# Altium integrated library Silicon Labs Small Form Factor MCUs.IntLib: 100 symbols (part 3 of 5)
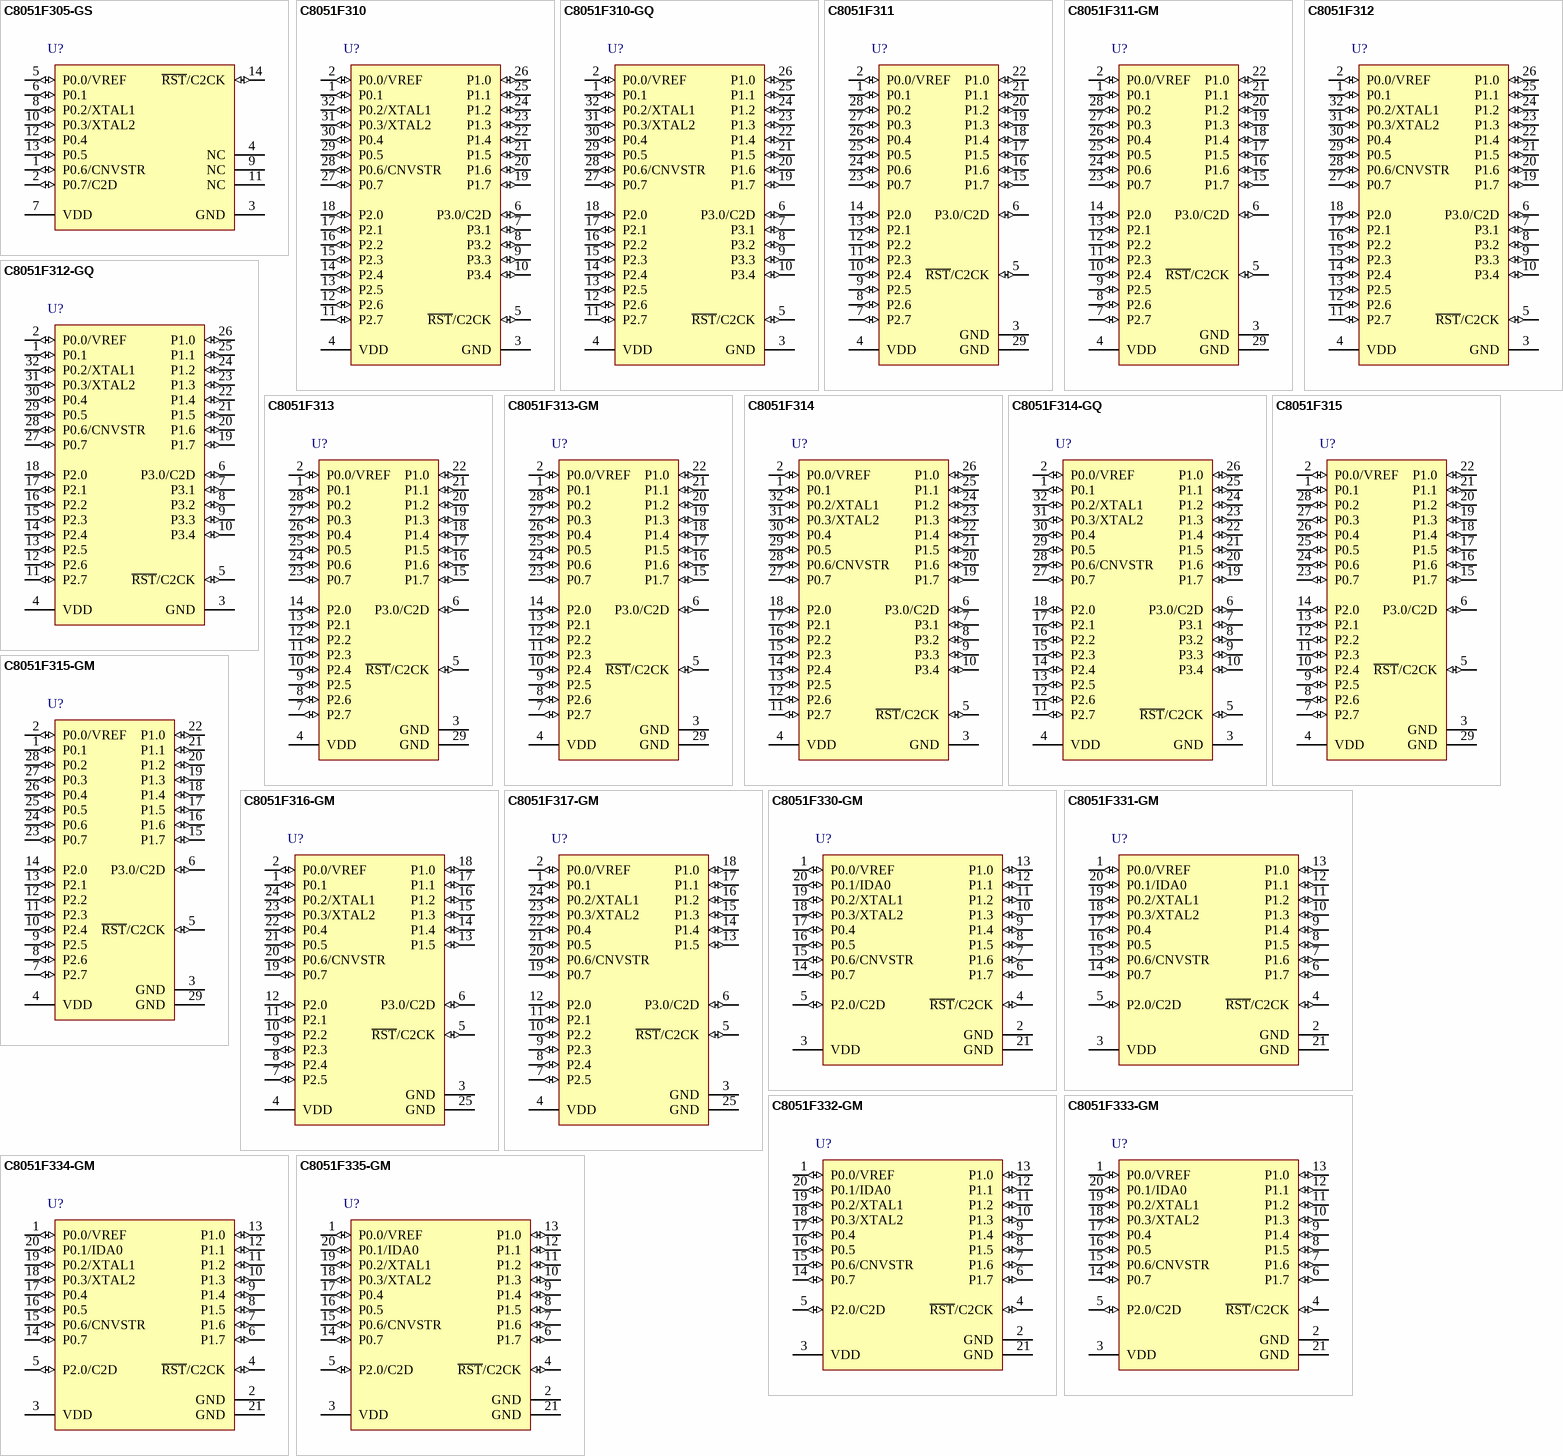
[diagram p6: symbols C8051F305-GS to C8051F335-GM]

## C8051F335-GM
designator U?
Mixed-Signal ISP Flash MCU Family, 25 MHz, 0.75 kB RAM, 2 kB Flash, -40 to 85 degC, 20-pin QFN; Manufacturer: Silicon Labs; PartNumber: C8051F335-GM; AEC-Q100: FALSE; Comparators: 1; Debug Interface: C2; Dig I/O Pins: 17; Flash: 2 kB; Internal Osc. Accuracy: +/-2%; MCU Core: 8051; MHz: 25; PCA Channels: 3; RAM: 0.75 kB; Timers (16-bit): 4; Sub-Family: Small Form Factor MCUs; DatasheetVersion: Rev. 1.7; PackageReference: QFN-20; PackageDescription: 20-Pin Quad-Flat No-Leads Package, Body 4 x 4 mm, Pitch 0.5 mm; Supplier 1: Digi-Key; Supplier Part Number 1: 336-1269-ND; Supplier 2: Farnell; Supplier Part Number 2: 1291519; Supplier 3: Newark; Supplier Part Number 3: 24M1248; Supplier 4: Mouser; Supplier Part Number 4: 634-C8051F335-GM; Temp Sensor: FALSE; Mounting Technology: Surface Mount; Code_JEDEC: MO-220; Code_IPC: J-STD-020; ComponentLink1Description: Manufacturer URL; ComponentLink1URL: http://www.silabs.com/; ComponentLink2Description: Datasheet; ComponentLink2URL: http://www.silabs.com/Support Documents/TechnicalDocs/C8051F33x.pdf; ComponentLink3Description: Package Specification; ComponentLink3URL: http://www.silabs.com/Support%20Documents/TechnicalDocs/C8051F80x-83x.pdf
footprint SLAB-QFN-20-2125x2125TP_N (QFN, 20-Leads, Body 4x4mm, Pitch 0.5mm, Thermal Pad 2.13x2.13mm, IPC Medium Density)
footprint SLAB-QFN-20-2125x2125TP_L (QFN, 20-Leads, Body 4x4mm, Pitch 0.5mm, Thermal Pad 2.13x2.13mm, IPC High Density)
footprint SLAB-QFN-20-2125x2125TP_M (QFN, 20-Leads, Body 4x4mm, Pitch 0.5mm, Thermal Pad 2.13x2.13mm, IPC Low Density)
pins: 1 P0.0/VREF (io), 2 GND (power) "Ground.", 3 VDD (power) "Power Supply Voltage.", 4 ~{RST}/C2CK (io), 5 P2.0/C2D (io), 6 P1.7 (io) "Port 1.7.", 7 P1.6 (io) "Port 1.6.", 8 P1.5 (io) "Port 1.5.", 9 P1.4 (io) "Port 1.4.", 10 P1.3 (io) "Port 1.3.", 11 P1.2 (io) "Port 1.2.", 12 P1.1 (io) "Port 1.1.", 13 P1.0 (io) "Port 1.0.", 14 P0.7 (io) "Port 0.7.", 15 P0.6/CNVSTR (io), 16 P0.5 (io) "Port 0.5", 17 P0.4 (io) "Port 0.4.", 18 P0.3/XTAL2 (io), 19 P0.2/XTAL1 (io), 20 P0.1/IDA0 (io), 21 GND (power) "Ground.This ground connection is required. The center pad may optionally be connected to ground also."

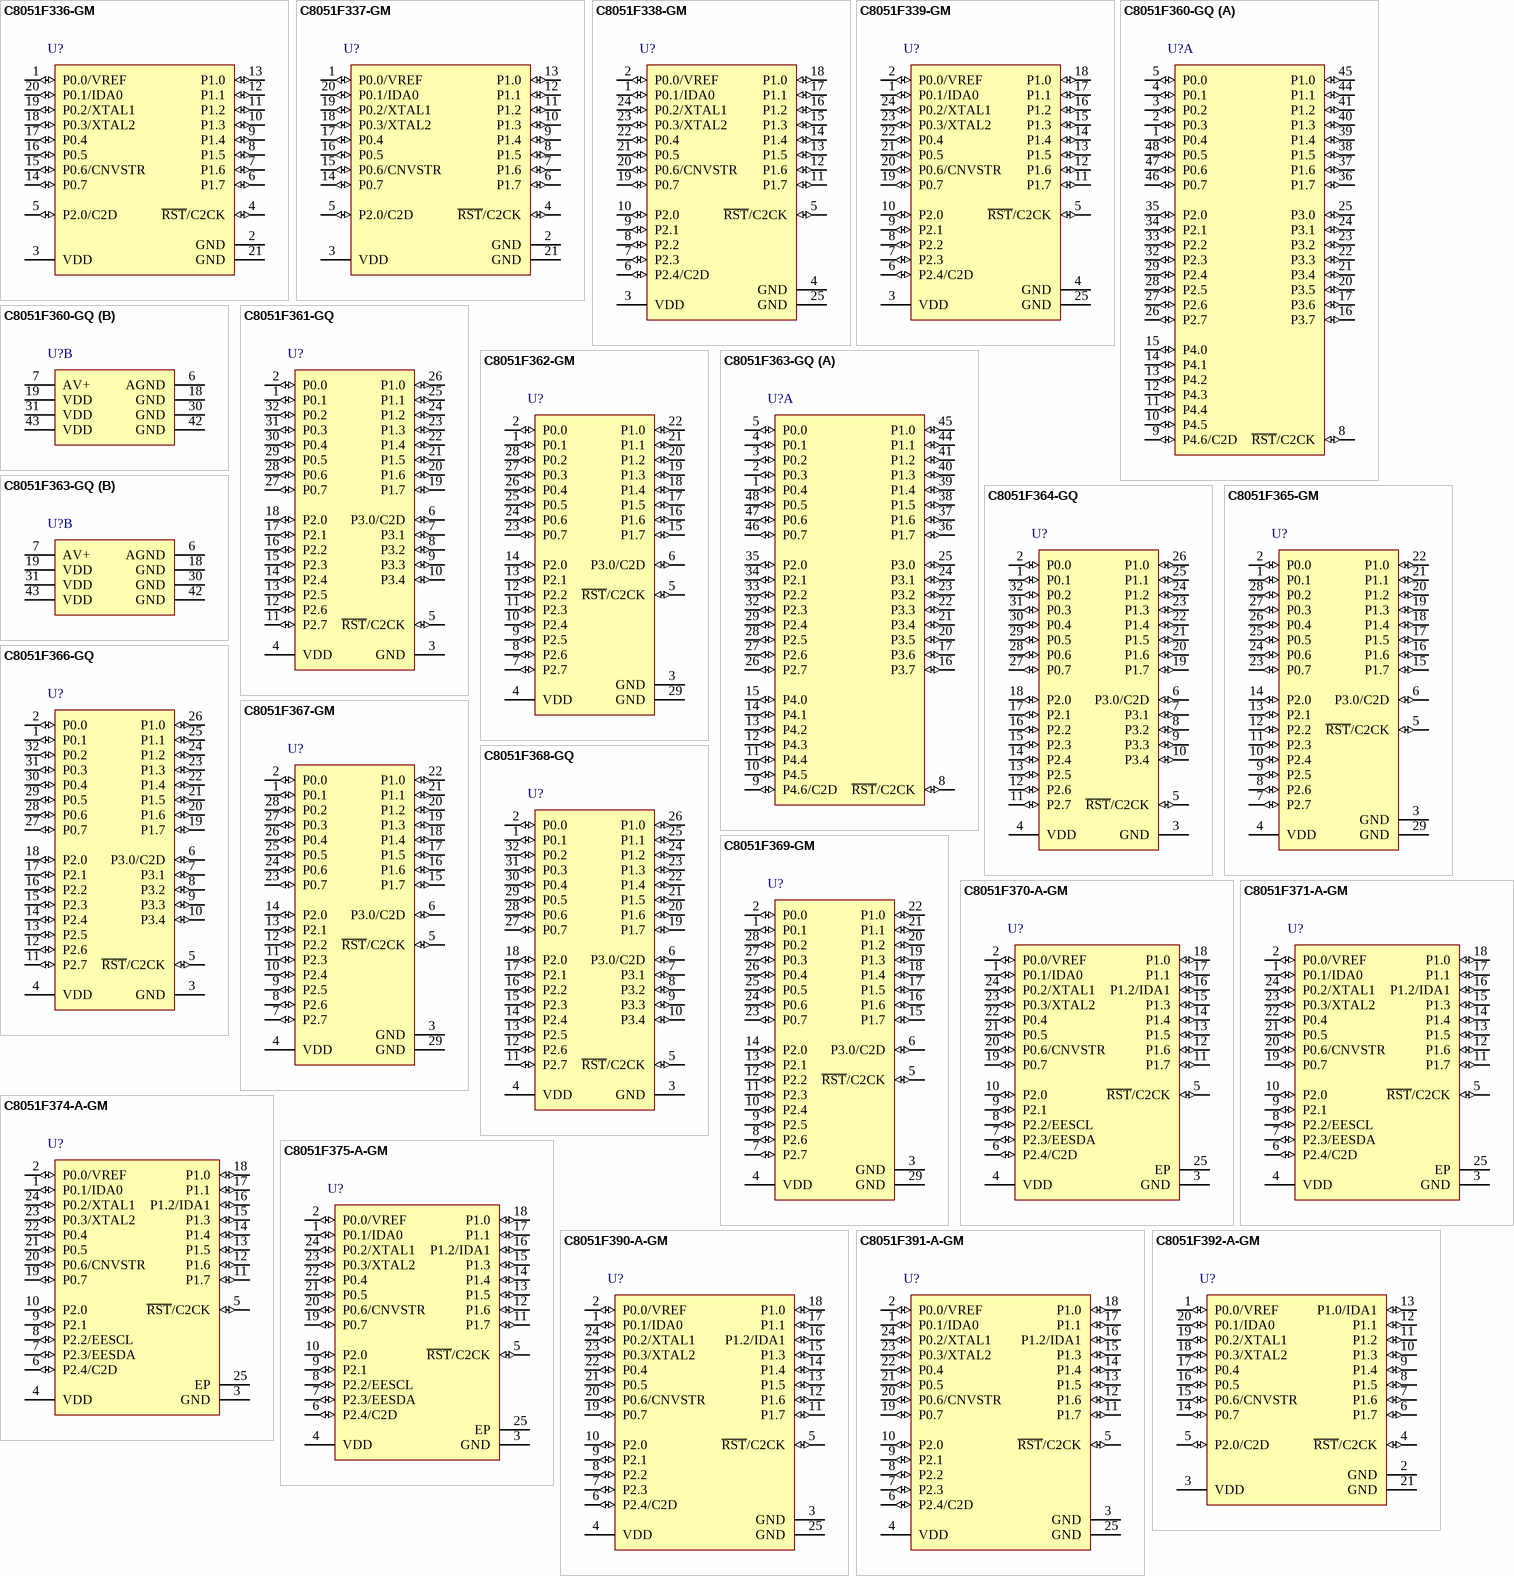
[diagram p2: symbols C8051F336-GM to C8051F392-A-GM]

## C8051F336-GM
designator U?
Mixed-Signal Byte-Programmable EPROM MCU, 25 MHz, 0.75 kB RAM, 16 kB Flash, -40 to 85 degC, 20-pin QFN; Manufacturer: Silicon Labs; PartNumber: C8051F336-GM; ADC 1: 10-bit, 16-ch., 200 ksps; AEC-Q100: FALSE; Comparators: 1; DAC: 10-bit, 1-ch.; Debug Interface: C2; Dig I/O Pins: 17; Flash: 16 kB; Internal Osc. Accuracy: +/-2%; MCU Core: 8051; MHz: 25; PCA Channels: 3; RAM: 0.75 kB; Temp Sensor: TRUE; Timers (16-bit): 4; Sub-Family: Small Form Factor MCUs; DatasheetVersion: Rev. 1.0; PackageReference: QFN-20; PackageDescription: 20-Pin Quad-Flat No-Leads Package, Body 4 x 4 mm, Pitch 0.5 mm; Supplier 1: Digi-Key; Supplier Part Number 1: 336-1429-5-ND; Supplier 2: Mouser; Supplier Part Number 2: 634-C8051F336-GM; Mounting Technology: Surface Mount; Code_JEDEC: MO-220; Code_IPC: J-STD-020; ComponentLink1Description: Manufacturer URL; ComponentLink1URL: http://www.silabs.com/; ComponentLink2Description: Datasheet; ComponentLink2URL: http://www.silabs.com/Support Documents/TechnicalDocs/C8051F336.pdf; ComponentLink3Description: Package Specification; ComponentLink3URL: http://www.silabs.com/Support%20Documents/TechnicalDocs/C8051F80x-83x.pdf
footprint SLAB-QFN-20-2125x2125TP_N (QFN, 20-Leads, Body 4x4mm, Pitch 0.5mm, Thermal Pad 2.13x2.13mm, IPC Medium Density)
footprint SLAB-QFN-20-2125x2125TP_L (QFN, 20-Leads, Body 4x4mm, Pitch 0.5mm, Thermal Pad 2.13x2.13mm, IPC High Density)
footprint SLAB-QFN-20-2125x2125TP_M (QFN, 20-Leads, Body 4x4mm, Pitch 0.5mm, Thermal Pad 2.13x2.13mm, IPC Low Density)
pins: 1 P0.0/VREF (io), 2 GND (power) "Ground.", 3 VDD (power) "Power Supply Voltage.", 4 ~{RST}/C2CK (io), 5 P2.0/C2D (io), 6 P1.7 (io) "Port 1.7.", 7 P1.6 (io) "Port 1.6.", 8 P1.5 (io) "Port 1.5.", 9 P1.4 (io) "Port 1.4.", 10 P1.3 (io) "Port 1.3.", 11 P1.2 (io) "Port 1.2.", 12 P1.1 (io) "Port 1.1.", 13 P1.0 (io) "Port 1.0.", 14 P0.7 (io) "Port 0.7.", 15 P0.6/CNVSTR (io), 16 P0.5 (io) "Port 0.5", 17 P0.4 (io) "Port 0.4.", 18 P0.3/XTAL2 (io), 19 P0.2/XTAL1 (io), 20 P0.1/IDA0 (io), 21 GND (power) "Ground.This ground connection is required. The center pad may optionally be connected to ground also."

## C8051F337-GM
designator U?
Mixed-Signal Byte-Programmable EPROM MCU, 25 MHz, 0.75 kB RAM, 16 kB Flash, -40 to 85 degC, 20-pin QFN; Manufacturer: Silicon Labs; PartNumber: C8051F337-GM; AEC-Q100: FALSE; Comparators: 1; Debug Interface: C2; Dig I/O Pins: 17; Flash: 16 kB; Internal Osc. Accuracy: +/-2%; MCU Core: 8051; MHz: 25; PCA Channels: 3; RAM: 0.75 kB; Timers (16-bit): 4; Sub-Family: Small Form Factor MCUs; DatasheetVersion: Rev. 1.0; PackageReference: QFN-20; PackageDescription: 20-Pin Quad-Flat No-Leads Package, Body 4 x 4 mm, Pitch 0.5 mm; Supplier 1: Digi-Key; Supplier Part Number 1: 336-1428-5-ND; Supplier 2: Mouser; Supplier Part Number 2: 634-C8051F337-GM; Temp Sensor: FALSE; Mounting Technology: Surface Mount; Code_JEDEC: MO-220; Code_IPC: J-STD-020; ComponentLink1Description: Manufacturer URL; ComponentLink1URL: http://www.silabs.com/; ComponentLink2Description: Datasheet; ComponentLink2URL: http://www.silabs.com/Support Documents/TechnicalDocs/C8051F336.pdf; ComponentLink3Description: Package Specification; ComponentLink3URL: http://www.silabs.com/Support%20Documents/TechnicalDocs/C8051F80x-83x.pdf
footprint SLAB-QFN-20-2125x2125TP_N (QFN, 20-Leads, Body 4x4mm, Pitch 0.5mm, Thermal Pad 2.13x2.13mm, IPC Medium Density)
footprint SLAB-QFN-20-2125x2125TP_L (QFN, 20-Leads, Body 4x4mm, Pitch 0.5mm, Thermal Pad 2.13x2.13mm, IPC High Density)
footprint SLAB-QFN-20-2125x2125TP_M (QFN, 20-Leads, Body 4x4mm, Pitch 0.5mm, Thermal Pad 2.13x2.13mm, IPC Low Density)
pins: 1 P0.0/VREF (io), 2 GND (power) "Ground.", 3 VDD (power) "Power Supply Voltage.", 4 ~{RST}/C2CK (io), 5 P2.0/C2D (io), 6 P1.7 (io) "Port 1.7.", 7 P1.6 (io) "Port 1.6.", 8 P1.5 (io) "Port 1.5.", 9 P1.4 (io) "Port 1.4.", 10 P1.3 (io) "Port 1.3.", 11 P1.2 (io) "Port 1.2.", 12 P1.1 (io) "Port 1.1.", 13 P1.0 (io) "Port 1.0.", 14 P0.7 (io) "Port 0.7.", 15 P0.6/CNVSTR (io), 16 P0.5 (io) "Port 0.5", 17 P0.4 (io) "Port 0.4.", 18 P0.3/XTAL2 (io), 19 P0.2/XTAL1 (io), 20 P0.1/IDA0 (io), 21 GND (power) "Ground.This ground connection is required. The center pad may optionally be connected to ground also."

## C8051F338-GM
designator U?
Mixed-Signal Byte-Programmable EPROM MCU, 25 MHz, 0.75 kB RAM, 16 kB Flash, -40 to 85 degC, 24-pin QFN; Manufacturer: Silicon Labs; PartNumber: C8051F338-GM; ADC 1: 10-bit, 16-ch., 200 ksps; AEC-Q100: FALSE; Comparators: 1; DAC: 10-bit, 1-ch.; Debug Interface: C2; Dig I/O Pins: 21; Flash: 16 kB; Internal Osc. Accuracy: +/-2%; MCU Core: 8051; MHz: 25; PCA Channels: 3; RAM: 0.75 kB; Temp Sensor: TRUE; Timers (16-bit): 4; Sub-Family: Small Form Factor MCUs; DatasheetVersion: Rev. 1.0; PackageReference: QFN-24; PackageDescription: 24-Pin Quad-Flat No-Leads Package, Body 4 x 4 mm, Pitch 0.5 mm; Supplier 1: Digi-Key; Supplier Part Number 1: 336-1427-5-ND; Supplier 2: Mouser; Supplier Part Number 2: 634-C8051F338-GM; Mounting Technology: Surface Mount; Code_JEDEC: MO-220; Code_IPC: J-STD-020; ComponentLink1Description: Manufacturer URL; ComponentLink1URL: http://www.silabs.com/; ComponentLink2Description: Datasheet; ComponentLink2URL: http://www.silabs.com/Support Documents/TechnicalDocs/C8051F336.pdf; ComponentLink3Description: Package Specification; ComponentLink3URL: http://www.silabs.com/Support%20Documents/TechnicalDocs/C8051F93x-92x.pdf
footprint SLAB-QFN-24-2675x2675TP_N (QFN, 24-Leads, Body 4x4mm, Pitch 0.5mm, Thermal Pad 2.68x2.68mm, IPC Medium Density)
footprint SLAB-QFN-24-2675x2675TP_L (QFN, 24-Leads, Body 4x4mm, Pitch 0.5mm, Thermal Pad 2.68x2.68mm, IPC High Density)
footprint SLAB-QFN-24-2675x2675TP_M (QFN, 24-Leads, Body 4x4mm, Pitch 0.5mm, Thermal Pad 2.68x2.68mm, IPC Low Density)
pins: 1 P0.1/IDA0 (io), 2 P0.0/VREF (io), 3 VDD (power) "Power Supply Voltage.", 4 GND (power) "Ground.", 5 ~{RST}/C2CK (io), 6 P2.4/C2D (io), 7 P2.3 (io) "Port 2.3.", 8 P2.2 (io) "Port 2.2.", 9 P2.1 (io) "Port 2.1.", 10 P2.0 (io) "Port 2.0.", 11 P1.7 (io) "Port 1.7.", 12 P1.6 (io) "Port 1.6.", 13 P1.5 (io) "Port 1.5.", 14 P1.4 (io) "Port 1.4.", 15 P1.3 (io) "Port 1.3.", 16 P1.2 (io) "Port 1.2.", 17 P1.1 (io) "Port 1.1.", 18 P1.0 (io) "Port 1.0.", 19 P0.7 (io) "Port 0.7.", 20 P0.6/CNVSTR (io), 21 P0.5 (io) "Port 0.5.", 22 P0.4 (io) "Port 0.4.", 23 P0.3/XTAL2 (io), 24 P0.2/XTAL1 (io), 25 GND (power) "Ground. This ground connection is required. The center pad may optionally be connected to ground also."

## C8051F339-GM
designator U?
Mixed-Signal Byte-Programmable EPROM MCU, 25 MHz, 0.75 kB RAM, 16 kB Flash, -40 to 85 degC, 24-pin QFN; Manufacturer: Silicon Labs; PartNumber: C8051F339-GM; AEC-Q100: FALSE; Comparators: 1; Debug Interface: C2; Dig I/O Pins: 21; Flash: 16 kB; Internal Osc. Accuracy: +/-2%; MCU Core: 8051; MHz: 25; PCA Channels: 3; RAM: 0.75 kB; Timers (16-bit): 4; Sub-Family: Small Form Factor MCUs; DatasheetVersion: Rev. 1.0; PackageReference: QFN-24; PackageDescription: 24-Pin Quad-Flat No-Leads Package, Body 4 x 4 mm, Pitch 0.5 mm; Supplier 1: Digi-Key; Supplier Part Number 1: 336-1426-5-ND; Supplier 2: Mouser; Supplier Part Number 2: 634-C8051F339-GM; Temp Sensor: FALSE; Mounting Technology: Surface Mount; Code_JEDEC: MO-220; Code_IPC: J-STD-020; ComponentLink1Description: Manufacturer URL; ComponentLink1URL: http://www.silabs.com/; ComponentLink2Description: Datasheet; ComponentLink2URL: http://www.silabs.com/Support Documents/TechnicalDocs/C8051F336.pdf; ComponentLink3Description: Package Specification; ComponentLink3URL: http://www.silabs.com/Support%20Documents/TechnicalDocs/C8051F93x-92x.pdf
footprint SLAB-QFN-24-2675x2675TP_N (QFN, 24-Leads, Body 4x4mm, Pitch 0.5mm, Thermal Pad 2.68x2.68mm, IPC Medium Density)
footprint SLAB-QFN-24-2675x2675TP_L (QFN, 24-Leads, Body 4x4mm, Pitch 0.5mm, Thermal Pad 2.68x2.68mm, IPC High Density)
footprint SLAB-QFN-24-2675x2675TP_M (QFN, 24-Leads, Body 4x4mm, Pitch 0.5mm, Thermal Pad 2.68x2.68mm, IPC Low Density)
pins: 1 P0.1/IDA0 (io), 2 P0.0/VREF (io), 3 VDD (power) "Power Supply Voltage.", 4 GND (power) "Ground.", 5 ~{RST}/C2CK (io), 6 P2.4/C2D (io), 7 P2.3 (io) "Port 2.3.", 8 P2.2 (io) "Port 2.2.", 9 P2.1 (io) "Port 2.1.", 10 P2.0 (io) "Port 2.0.", 11 P1.7 (io) "Port 1.7.", 12 P1.6 (io) "Port 1.6.", 13 P1.5 (io) "Port 1.5.", 14 P1.4 (io) "Port 1.4.", 15 P1.3 (io) "Port 1.3.", 16 P1.2 (io) "Port 1.2.", 17 P1.1 (io) "Port 1.1.", 18 P1.0 (io) "Port 1.0.", 19 P0.7 (io) "Port 0.7.", 20 P0.6/CNVSTR (io), 21 P0.5 (io) "Port 0.5.", 22 P0.4 (io) "Port 0.4.", 23 P0.3/XTAL2 (io), 24 P0.2/XTAL1 (io), 25 GND (power) "Ground. This ground connection is required. The center pad may optionally be connected to ground also."

## C8051F360-GQ
designator U?
Mixed Signal ISP Flash MCU Family, 100 MHz, 1.25 kB RAM, 32 kB Flash, -40 to 85 degC, 48-pin QFP; Manufacturer: Silicon Labs; PartNumber: C8051F360-GQ; ADC 1: 10-bit, 21-ch., 200 ksps; AEC-Q100: FALSE; Comparators: 2; DAC: 10-bit, 1-ch.; Debug Interface: C2; Dig I/O Pins: 39; Flash: 32 kB; Internal Osc. Accuracy: +/-2%; MCU Core: 8051; MHz: 100; PCA Channels: 6; RAM: 1.25 kB; Temp Sensor: TRUE; Timers (16-bit): 4; Sub-Family: Small Form Factor MCUs; DatasheetVersion: Rev. 1.0; PackageReference: TQFP-48; PackageDescription: 48-pin TQFP, Body 7 x 7 mm, Pitch 0.5 mm; Supplier 1: Digi-Key; Supplier Part Number 1: 336-1407-ND; Supplier 2: Mouser; Supplier Part Number 2: 634-C8051F360-GQ; Mounting Technology: Surface Mount; Code_JEDEC: MS-026; Code_IPC: J-STD-020; ComponentLink1Description: Manufacturer URL; ComponentLink1URL: http://www.silabs.com/; ComponentLink2Description: Datasheet; ComponentLink2URL: http://www.silabs.com/Support Documents/TechnicalDocs/C8051F36x.pdf; ComponentLink3Description: Package Specification; ComponentLink3URL: http://www.silabs.com/Support%20Documents/TechnicalDocs/CP2200.pdf
footprint SLAB-TQFP-48_N (QFP, 48-Leads, Body 7x7mm, Pitch 0.5mm, IPC Medium Density)
footprint SLAB-TQFP-48_L (QFP, 48-Leads, Body 7x7mm, Pitch 0.5mm, IPC High Density)
footprint SLAB-TQFP-48_M (QFP, 48-Leads, Body 7x7mm, Pitch 0.5mm, IPC Low Density)
part A pins: 1 P0.4 (io) "Port 0.4. See Section 17 for a complete description.", 2 P0.3 (io) "Port 0.3. See Section 17 for a complete description.", 3 P0.2 (io) "Port 0.2. See Section 17 for a complete description.", 4 P0.1 (io) "Port 0.1. See Section 17 for a complete description.", 5 P0.0 (io) "Port 0.0. See Section 17 for a complete description.", 8 ~{RST}/C2CK (io), 9 P4.6/C2D (io), 10 P4.5 (io) "Port 4.5. See Section 17 for a complete description.", 11 P4.4 (io) "Port 4.4. See Section 17 for a complete description.", 12 P4.3 (io) "Port 4.3. See Section 17 for a complete description.", 13 P4.2 (io) "Port 4.2. See Section 17 for a complete description.", 14 P4.1 (io) "Port 4.1. See Section 17 for a complete description.", 15 P4.0 (io) "Port 4.0. See Section 17 for a complete description.", 16 P3.7 (io) "Port 3.7. See Section 17 for a complete description.", 17 P3.6 (io) "Port 3.6. See Section 17 for a complete description.", 20 P3.5 (io) "Port 3.5. See Section 17 for a complete description.", 21 P3.4 (io) "Port 3.4. See Section 17 for a complete description.", 22 P3.3 (io) "Port 3.3. See Section 17 for a complete description.", 23 P3.2 (io) "Port 3.2. See Section 17 for a complete description.", 24 P3.1 (io) "Port 3.1. See Section 17 for a complete description.", 25 P3.0 (io) "Port 3.0. See Section 17 for a complete description.", 26 P2.7 (io) "Port 2.7. See Section 17 for a complete description.", 27 P2.6 (io) "Port 2.6. See Section 17 for a complete description.", 28 P2.5 (io) "Port 2.5. See Section 17 for a complete description.", 29 P2.4 (io) "Port 2.4. See Section 17 for a complete description.", 32 P2.3 (io) "Port 2.3. See Section 17 for a complete description.", 33 P2.2 (io) "Port 2.2. See Section 17 for a complete description.", 34 P2.1 (io) "Port 2.1. See Section 17 for a complete description.", 35 P2.0 (io) "Port 2.0. See Section 17 for a complete description.", 36 P1.7 (io) "Port 1.7. See Section 17 for a complete description.", 37 P1.6 (io) "Port 1.6. See Section 17 for a complete description.", 38 P1.5 (io) "Port 1.5. See Section 17 for a complete description.", 39 P1.4 (io) "Port 1.4. See Section 17 for a complete description.", 40 P1.3 (io) "Port 1.3. See Section 17 for a complete description.", 41 P1.2 (io) "Port 1.2. See Section 17 for a complete description.", 44 P1.1 (io) "Port 1.1. See Section 17 for a complete description.", 45 P1.0 (io) "Port 1.0. See Section 17 for a complete description.", 46 P0.7 (io) "Port 0.7. See Section 17 for a complete description.", 47 P0.6 (io) "Port 0.6. See Section 17 for a complete description.", 48 P0.5 (io) "Port 0.5. See Section 17 for a complete description."
part B pins: 6 AGND (power) "Analog Ground.", 7 AV+ (power) "Analog Supply Voltage. Must be tied to +2.7 to +3.6 V.", 18 GND (power) "Ground.", 19 VDD (power) "Power Supply Voltage.", 30 GND (power) "Ground.", 31 VDD (power) "Power Supply Voltage.", 42 GND (power) "Ground.", 43 VDD (power) "Power Supply Voltage."

## C8051F361-GQ
designator U?
Mixed Signal ISP Flash MCU Family, 100 MHz, 1.25 kB RAM, 32 kB Flash, -40 to 85 degC, 32-pin QFP; Manufacturer: Silicon Labs; PartNumber: C8051F361-GQ; ADC 1: 10-bit, 21-ch., 200 ksps; AEC-Q100: FALSE; Comparators: 2; DAC: 10-bit, 1-ch.; Debug Interface: C2; Dig I/O Pins: 27; Flash: 32 kB; Internal Osc. Accuracy: +/-2%; MCU Core: 8051; MHz: 100; PCA Channels: 6; RAM: 1.25 kB; Temp Sensor: TRUE; Timers (16-bit): 4; Sub-Family: Small Form Factor MCUs; DatasheetVersion: Rev. 1.0; PackageReference: LQFP-32; PackageDescription: 32-Pin Low-Profile Quad Flat Pack, Body 7 x 7 mm, Pitch 0.8 mm; Supplier 1: Digi-Key; Supplier Part Number 1: 336-1408-ND; Supplier 2: Mouser; Supplier Part Number 2: 634-C8051F361-GQ; Mounting Technology: Surface Mount; Code_JEDEC: MS-026; Code_IPC: J-STD-020; ComponentLink1Description: Manufacturer URL; ComponentLink1URL: http://www.silabs.com/; ComponentLink2Description: Datasheet; ComponentLink2URL: http://www.silabs.com/Support Documents/TechnicalDocs/C8051F36x.pdf; ComponentLink3Description: Package Specification; ComponentLink3URL: http://www.silabs.com/Support%20Documents/TechnicalDocs/C8051F38x.pdf
footprint SLAB-LQFP-32_N (QFP, 32-Leads, Body 7x7mm, Pitch 0.8mm, IPC Medium Density)
footprint SLAB-LQFP-32_L (QFP, 32-Leads, Body 7x7mm, Pitch 0.8mm, IPC High Density)
footprint SLAB-LQFP-32_M (QFP, 32-Leads, Body 7x7mm, Pitch 0.8mm, IPC Low Density)
pins: 1 P0.1 (io) "Port 0.1. See Section 17 for a complete description.", 2 P0.0 (io) "Port 0.0. See Section 17 for a complete description.", 3 GND (power) "Ground.", 4 VDD (power) "Power Supply Voltage.", 5 ~{RST}/C2CK (io), 6 P3.0/C2D (io), 7 P3.1 (io) "Port 3.1. See Section 17 for a complete description.", 8 P3.2 (io) "Port 3.2. See Section 17 for a complete description.", 9 P3.3 (io) "Port 3.3. See Section 17 for a complete description.", 10 P3.4 (io) "Port 3.4. See Section 17 for a complete description.", 11 P2.7 (io) "Port 2.7. See Section 17 for a complete description.", 12 P2.6 (io) "Port 2.6. See Section 17 for a complete description.", 13 P2.5 (io) "Port 2.5. See Section 17 for a complete description.", 14 P2.4 (io) "Port 2.4. See Section 17 for a complete description.", 15 P2.3 (io) "Port 2.3. See Section 17 for a complete description.", 16 P2.2 (io) "Port 2.2. See Section 17 for a complete description.", 17 P2.1 (io) "Port 2.1. See Section 17 for a complete description.", 18 P2.0 (io) "Port 2.0. See Section 17 for a complete description.", 19 P1.7 (io) "Port 1.7. See Section 17 for a complete description.", 20 P1.6 (io) "Port 1.6. See Section 17 for a complete description.", 21 P1.5 (io) "Port 1.5. See Section 17 for a complete description.", 22 P1.4 (io) "Port 1.4. See Section 17 for a complete description.", 23 P1.3 (io) "Port 1.3. See Section 17 for a complete description.", 24 P1.2 (io) "Port 1.2. See Section 17 for a complete description.", 25 P1.1 (io) "Port 1.1. See Section 17 for a complete description.", 26 P1.0 (io) "Port 1.0. See Section 17 for a complete description.", 27 P0.7 (io) "Port 0.7. See Section 17 for a complete description.", 28 P0.6 (io) "Port 0.6. See Section 17 for a complete description.", 29 P0.5 (io) "Port 0.5. See Section 17 for a complete description.", 30 P0.4 (io) "Port 0.4. See Section 17 for a complete description.", 31 P0.3 (io) "Port 0.3. See Section 17 for a complete description.", 32 P0.2 (io) "Port 0.2. See Section 17 for a complete description."

## C8051F362-GM
designator U?
Mixed Signal ISP Flash MCU Family, 100 MHz, 1.25 kB RAM, 32 kB Flash, -40 to 85 degC, 28-pin QFN; Manufacturer: Silicon Labs; PartNumber: C8051F362-GM; ADC 1: 10-bit, 17-ch., 200 ksps; AEC-Q100: FALSE; Comparators: 2; DAC: 10-bit, 1-ch.; Debug Interface: C2; Dig I/O Pins: 24; Flash: 32 kB; Internal Osc. Accuracy: +/-2%; MCU Core: 8051; MHz: 100; PCA Channels: 6; RAM: 1.25 kB; Temp Sensor: TRUE; Timers (16-bit): 4; Sub-Family: Small Form Factor MCUs; DatasheetVersion: Rev. 1.0; PackageReference: QFN-28; PackageDescription: 28-Pin Quad-Flat No-Leads Package, Body 5 x 5 mm, Pitch 0.5 mm; Supplier 1: Digi-Key; Supplier Part Number 1: 336-1409-5-ND; Supplier 2: Mouser; Supplier Part Number 2: 634-C8051F362-GM; Mounting Technology: Surface Mount; ComponentLink1Description: Manufacturer URL; ComponentLink1URL: http://www.silabs.com/; ComponentLink2Description: Datasheet; ComponentLink2URL: http://www.silabs.com/Support Documents/TechnicalDocs/C8051F36x.pdf; ComponentLink3Description: Package Specification; ComponentLink3URL: http://www.silabs.com/Support%20Documents/TechnicalDocs/C8051F35x.pdf
footprint SLAB-QFN-28-3125x3125TP_A_N (QFN, 28-Leads, Body 5x5mm, Pitch 0.5mm, Thermal Pad 3.13x3.13mm, IPC Medium Density)
footprint SLAB-QFN-28-3125x3125TP_A_L (QFN, 28-Leads, Body 5x5mm, Pitch 0.5mm, Thermal Pad 3.13x3.13mm, IPC High Density)
footprint SLAB-QFN-28-3125x3125TP_A_M (QFN, 28-Leads, Body 5x5mm, Pitch 0.5mm, Thermal Pad 3.13x3.13mm, IPC Low Density)
pins: 1 P0.1 (io) "Port 0.1. See Section 17 for a complete description.", 2 P0.0 (io) "Port 0.0. See Section 17 for a complete description.", 3 GND (power) "Ground.", 4 VDD (power) "Power Supply Voltage.", 5 ~{RST}/C2CK (io), 6 P3.0/C2D (io), 7 P2.7 (io) "Port 2.7. See Section 17 for a complete description.", 8 P2.6 (io) "Port 2.6. See Section 17 for a complete description.", 9 P2.5 (io) "Port 2.5. See Section 17 for a complete description.", 10 P2.4 (io) "Port 2.4. See Section 17 for a complete description.", 11 P2.3 (io) "Port 2.3. See Section 17 for a complete description.", 12 P2.2 (io) "Port 2.2. See Section 17 for a complete description.", 13 P2.1 (io) "Port 2.1. See Section 17 for a complete description.", 14 P2.0 (io) "Port 2.0. See Section 17 for a complete description.", 15 P1.7 (io) "Port 1.7. See Section 17 for a complete description.", 16 P1.6 (io) "Port 1.6. See Section 17 for a complete description.", 17 P1.5 (io) "Port 1.5. See Section 17 for a complete description.", 18 P1.4 (io) "Port 1.4. See Section 17 for a complete description.", 19 P1.3 (io) "Port 1.3. See Section 17 for a complete description.", 20 P1.2 (io) "Port 1.2. See Section 17 for a complete description.", 21 P1.1 (io) "Port 1.1. See Section 17 for a complete description.", 22 P1.0 (io) "Port 1.0. See Section 17 for a complete description.", 23 P0.7 (io) "Port 0.7. See Section 17 for a complete description.", 24 P0.6 (io) "Port 0.6. See Section 17 for a complete description.", 25 P0.5 (io) "Port 0.5. See Section 17 for a complete description.", 26 P0.4 (io) "Port 0.4. See Section 17 for a complete description.", 27 P0.3 (io) "Port 0.3. See Section 17 for a complete description.", 28 P0.2 (io) "Port 0.2. See Section 17 for a complete description.", 29 GND (power) "Ground."

## C8051F363-GQ
designator U?
Mixed Signal ISP Flash MCU Family, 100 MHz, 1.25 kB RAM, 32 kB Flash, -40 to 85 degC, 48-pin QFP; Manufacturer: Silicon Labs; PartNumber: C8051F363-GQ; AEC-Q100: FALSE; Comparators: 2; Debug Interface: C2; Dig I/O Pins: 39; Flash: 32 kB; Internal Osc. Accuracy: +/-2%; MCU Core: 8051; MHz: 100; PCA Channels: 6; RAM: 1.25 kB; Timers (16-bit): 4; Sub-Family: Small Form Factor MCUs; DatasheetVersion: Rev. 1.0; PackageReference: TQFP-48; PackageDescription: 48-pin TQFP, Body 7 x 7 mm, Pitch 0.5 mm; Supplier 1: Digi-Key; Supplier Part Number 1: 336-1645-ND; Supplier 2: Mouser; Supplier Part Number 2: 634-C8051F363-GQ; Temp Sensor: FALSE; Mounting Technology: Surface Mount; Code_JEDEC: MS-026; Code_IPC: J-STD-020; ComponentLink1Description: Manufacturer URL; ComponentLink1URL: http://www.silabs.com/; ComponentLink2Description: Datasheet; ComponentLink2URL: http://www.silabs.com/Support Documents/TechnicalDocs/C8051F36x.pdf; ComponentLink3Description: Package Specification; ComponentLink3URL: http://www.silabs.com/Support%20Documents/TechnicalDocs/CP2200.pdf
footprint SLAB-TQFP-48_N (QFP, 48-Leads, Body 7x7mm, Pitch 0.5mm, IPC Medium Density)
footprint SLAB-TQFP-48_L (QFP, 48-Leads, Body 7x7mm, Pitch 0.5mm, IPC High Density)
footprint SLAB-TQFP-48_M (QFP, 48-Leads, Body 7x7mm, Pitch 0.5mm, IPC Low Density)
part A pins: 1 P0.4 (io) "Port 0.4. See Section 17 for a complete description.", 2 P0.3 (io) "Port 0.3. See Section 17 for a complete description.", 3 P0.2 (io) "Port 0.2. See Section 17 for a complete description.", 4 P0.1 (io) "Port 0.1. See Section 17 for a complete description.", 5 P0.0 (io) "Port 0.0. See Section 17 for a complete description.", 8 ~{RST}/C2CK (io), 9 P4.6/C2D (io), 10 P4.5 (io) "Port 4.5. See Section 17 for a complete description.", 11 P4.4 (io) "Port 4.4. See Section 17 for a complete description.", 12 P4.3 (io) "Port 4.3. See Section 17 for a complete description.", 13 P4.2 (io) "Port 4.2. See Section 17 for a complete description.", 14 P4.1 (io) "Port 4.1. See Section 17 for a complete description.", 15 P4.0 (io) "Port 4.0. See Section 17 for a complete description.", 16 P3.7 (io) "Port 3.7. See Section 17 for a complete description.", 17 P3.6 (io) "Port 3.6. See Section 17 for a complete description.", 20 P3.5 (io) "Port 3.5. See Section 17 for a complete description.", 21 P3.4 (io) "Port 3.4. See Section 17 for a complete description.", 22 P3.3 (io) "Port 3.3. See Section 17 for a complete description.", 23 P3.2 (io) "Port 3.2. See Section 17 for a complete description.", 24 P3.1 (io) "Port 3.1. See Section 17 for a complete description.", 25 P3.0 (io) "Port 3.0. See Section 17 for a complete description.", 26 P2.7 (io) "Port 2.7. See Section 17 for a complete description.", 27 P2.6 (io) "Port 2.6. See Section 17 for a complete description.", 28 P2.5 (io) "Port 2.5. See Section 17 for a complete description.", 29 P2.4 (io) "Port 2.4. See Section 17 for a complete description.", 32 P2.3 (io) "Port 2.3. See Section 17 for a complete description.", 33 P2.2 (io) "Port 2.2. See Section 17 for a complete description.", 34 P2.1 (io) "Port 2.1. See Section 17 for a complete description.", 35 P2.0 (io) "Port 2.0. See Section 17 for a complete description.", 36 P1.7 (io) "Port 1.7. See Section 17 for a complete description.", 37 P1.6 (io) "Port 1.6. See Section 17 for a complete description.", 38 P1.5 (io) "Port 1.5. See Section 17 for a complete description.", 39 P1.4 (io) "Port 1.4. See Section 17 for a complete description.", 40 P1.3 (io) "Port 1.3. See Section 17 for a complete description.", 41 P1.2 (io) "Port 1.2. See Section 17 for a complete description.", 44 P1.1 (io) "Port 1.1. See Section 17 for a complete description.", 45 P1.0 (io) "Port 1.0. See Section 17 for a complete description.", 46 P0.7 (io) "Port 0.7. See Section 17 for a complete description.", 47 P0.6 (io) "Port 0.6. See Section 17 for a complete description.", 48 P0.5 (io) "Port 0.5. See Section 17 for a complete description."
part B pins: 6 AGND (power) "Analog Ground.", 7 AV+ (power) "Analog Supply Voltage. Must be tied to +2.7 to +3.6 V.", 18 GND (power) "Ground.", 19 VDD (power) "Power Supply Voltage.", 30 GND (power) "Ground.", 31 VDD (power) "Power Supply Voltage.", 42 GND (power) "Ground.", 43 VDD (power) "Power Supply Voltage."

## C8051F364-GQ
designator U?
Mixed Signal ISP Flash MCU Family, 100 MHz, 1.25 kB RAM, 32 kB Flash, -40 to 85 degC, 32-pin QFP; Manufacturer: Silicon Labs; PartNumber: C8051F364-GQ; AEC-Q100: FALSE; Comparators: 2; Debug Interface: C2; Dig I/O Pins: 29; Flash: 32 kB; Internal Osc. Accuracy: +/-2%; MCU Core: 8051; MHz: 100; PCA Channels: 6; RAM: 1.25 kB; Timers (16-bit): 4; Sub-Family: Small Form Factor MCUs; DatasheetVersion: Rev. 1.0; PackageReference: LQFP-32; PackageDescription: 32-Pin Low-Profile Quad Flat Pack, Body 7 x 7 mm, Pitch 0.8 mm; Supplier 1: Digi-Key; Supplier Part Number 1: 336-1646-ND; Supplier 2: Mouser; Supplier Part Number 2: 634-C8051F364-GQ; Temp Sensor: FALSE; Mounting Technology: Surface Mount; Code_JEDEC: MS-026; Code_IPC: J-STD-020; ComponentLink1Description: Manufacturer URL; ComponentLink1URL: http://www.silabs.com/; ComponentLink2Description: Datasheet; ComponentLink2URL: http://www.silabs.com/Support Documents/TechnicalDocs/C8051F36x.pdf; ComponentLink3Description: Package Specification; ComponentLink3URL: http://www.silabs.com/Support%20Documents/TechnicalDocs/C8051F38x.pdf
footprint SLAB-LQFP-32_N (QFP, 32-Leads, Body 7x7mm, Pitch 0.8mm, IPC Medium Density)
footprint SLAB-LQFP-32_L (QFP, 32-Leads, Body 7x7mm, Pitch 0.8mm, IPC High Density)
footprint SLAB-LQFP-32_M (QFP, 32-Leads, Body 7x7mm, Pitch 0.8mm, IPC Low Density)
pins: 1 P0.1 (io) "Port 0.1. See Section 17 for a complete description.", 2 P0.0 (io) "Port 0.0. See Section 17 for a complete description.", 3 GND (power) "Ground.", 4 VDD (power) "Power Supply Voltage.", 5 ~{RST}/C2CK (io), 6 P3.0/C2D (io), 7 P3.1 (io) "Port 3.1. See Section 17 for a complete description.", 8 P3.2 (io) "Port 3.2. See Section 17 for a complete description.", 9 P3.3 (io) "Port 3.3. See Section 17 for a complete description.", 10 P3.4 (io) "Port 3.4. See Section 17 for a complete description.", 11 P2.7 (io) "Port 2.7. See Section 17 for a complete description.", 12 P2.6 (io) "Port 2.6. See Section 17 for a complete description.", 13 P2.5 (io) "Port 2.5. See Section 17 for a complete description.", 14 P2.4 (io) "Port 2.4. See Section 17 for a complete description.", 15 P2.3 (io) "Port 2.3. See Section 17 for a complete description.", 16 P2.2 (io) "Port 2.2. See Section 17 for a complete description.", 17 P2.1 (io) "Port 2.1. See Section 17 for a complete description.", 18 P2.0 (io) "Port 2.0. See Section 17 for a complete description.", 19 P1.7 (io) "Port 1.7. See Section 17 for a complete description.", 20 P1.6 (io) "Port 1.6. See Section 17 for a complete description.", 21 P1.5 (io) "Port 1.5. See Section 17 for a complete description.", 22 P1.4 (io) "Port 1.4. See Section 17 for a complete description.", 23 P1.3 (io) "Port 1.3. See Section 17 for a complete description.", 24 P1.2 (io) "Port 1.2. See Section 17 for a complete description.", 25 P1.1 (io) "Port 1.1. See Section 17 for a complete description.", 26 P1.0 (io) "Port 1.0. See Section 17 for a complete description.", 27 P0.7 (io) "Port 0.7. See Section 17 for a complete description.", 28 P0.6 (io) "Port 0.6. See Section 17 for a complete description.", 29 P0.5 (io) "Port 0.5. See Section 17 for a complete description.", 30 P0.4 (io) "Port 0.4. See Section 17 for a complete description.", 31 P0.3 (io) "Port 0.3. See Section 17 for a complete description.", 32 P0.2 (io) "Port 0.2. See Section 17 for a complete description."

## C8051F365-GM
designator U?
Mixed Signal ISP Flash MCU Family, 100 MHz, 1.25 kB RAM, 32 kB Flash, -40 to 85 degC, 28-pin QFN; Manufacturer: Silicon Labs; PartNumber: C8051F365-GM; AEC-Q100: FALSE; Comparators: 2; Debug Interface: C2; Dig I/O Pins: 25; Flash: 32 kB; Internal Osc. Accuracy: +/-2%; MCU Core: 8051; MHz: 100; PCA Channels: 6; RAM: 1.25 kB; Timers (16-bit): 4; Sub-Family: Small Form Factor MCUs; DatasheetVersion: Rev. 1.0; PackageReference: QFN-28; PackageDescription: 28-Pin Quad-Flat No-Leads Package, Body 5 x 5 mm, Pitch 0.5 mm; Supplier 1: Digi-Key; Supplier Part Number 1: 336-1647-ND; Supplier 2: Mouser; Supplier Part Number 2: 634-C8051F365-GM; Temp Sensor: FALSE; Mounting Technology: Surface Mount; ComponentLink1Description: Manufacturer URL; ComponentLink1URL: http://www.silabs.com/; ComponentLink2Description: Datasheet; ComponentLink2URL: http://www.silabs.com/Support Documents/TechnicalDocs/C8051F36x.pdf; ComponentLink3Description: Package Specification; ComponentLink3URL: http://www.silabs.com/Support%20Documents/TechnicalDocs/C8051F35x.pdf
footprint SLAB-QFN-28-3125x3125TP_A_N (QFN, 28-Leads, Body 5x5mm, Pitch 0.5mm, Thermal Pad 3.13x3.13mm, IPC Medium Density)
footprint SLAB-QFN-28-3125x3125TP_A_L (QFN, 28-Leads, Body 5x5mm, Pitch 0.5mm, Thermal Pad 3.13x3.13mm, IPC High Density)
footprint SLAB-QFN-28-3125x3125TP_A_M (QFN, 28-Leads, Body 5x5mm, Pitch 0.5mm, Thermal Pad 3.13x3.13mm, IPC Low Density)
pins: 1 P0.1 (io) "Port 0.1. See Section 17 for a complete description.", 2 P0.0 (io) "Port 0.0. See Section 17 for a complete description.", 3 GND (power) "Ground.", 4 VDD (power) "Power Supply Voltage.", 5 ~{RST}/C2CK (io), 6 P3.0/C2D (io), 7 P2.7 (io) "Port 2.7. See Section 17 for a complete description.", 8 P2.6 (io) "Port 2.6. See Section 17 for a complete description.", 9 P2.5 (io) "Port 2.5. See Section 17 for a complete description.", 10 P2.4 (io) "Port 2.4. See Section 17 for a complete description.", 11 P2.3 (io) "Port 2.3. See Section 17 for a complete description.", 12 P2.2 (io) "Port 2.2. See Section 17 for a complete description.", 13 P2.1 (io) "Port 2.1. See Section 17 for a complete description.", 14 P2.0 (io) "Port 2.0. See Section 17 for a complete description.", 15 P1.7 (io) "Port 1.7. See Section 17 for a complete description.", 16 P1.6 (io) "Port 1.6. See Section 17 for a complete description.", 17 P1.5 (io) "Port 1.5. See Section 17 for a complete description.", 18 P1.4 (io) "Port 1.4. See Section 17 for a complete description.", 19 P1.3 (io) "Port 1.3. See Section 17 for a complete description.", 20 P1.2 (io) "Port 1.2. See Section 17 for a complete description.", 21 P1.1 (io) "Port 1.1. See Section 17 for a complete description.", 22 P1.0 (io) "Port 1.0. See Section 17 for a complete description.", 23 P0.7 (io) "Port 0.7. See Section 17 for a complete description.", 24 P0.6 (io) "Port 0.6. See Section 17 for a complete description.", 25 P0.5 (io) "Port 0.5. See Section 17 for a complete description.", 26 P0.4 (io) "Port 0.4. See Section 17 for a complete description.", 27 P0.3 (io) "Port 0.3. See Section 17 for a complete description.", 28 P0.2 (io) "Port 0.2. See Section 17 for a complete description.", 29 GND (power) "Ground."

## C8051F366-GQ
designator U?
Mixed Signal ISP Flash MCU Family, 50 MHz, 1.25 kB RAM, 32 kB Flash, -40 to 85 degC, 32-pin QFP; Manufacturer: Silicon Labs; PartNumber: C8051F366-GQ; ADC 1: 10-bit, 21-ch., 200 ksps; AEC-Q100: FALSE; Comparators: 2; DAC: 10-bit, 1-ch.; Debug Interface: C2; Dig I/O Pins: 29; Flash: 32 kB; Internal Osc. Accuracy: +/-2%; MCU Core: 8051; MHz: 50; PCA Channels: 6; RAM: 1.25 kB; Temp Sensor: TRUE; Timers (16-bit): 4; Sub-Family: Small Form Factor MCUs; DatasheetVersion: Rev. 1.0; PackageReference: LQFP-32; PackageDescription: 32-Pin Low-Profile Quad Flat Pack, Body 7 x 7 mm, Pitch 0.8 mm; Supplier 1: Digi-Key; Supplier Part Number 1: 336-1648-ND; Supplier 2: Mouser; Supplier Part Number 2: 634-C8051F366-GQ; Mounting Technology: Surface Mount; Code_JEDEC: MS-026; Code_IPC: J-STD-020; ComponentLink1Description: Manufacturer URL; ComponentLink1URL: http://www.silabs.com/; ComponentLink2Description: Datasheet; ComponentLink2URL: http://www.silabs.com/Support Documents/TechnicalDocs/C8051F36x.pdf; ComponentLink3Description: Package Specification; ComponentLink3URL: http://www.silabs.com/Support%20Documents/TechnicalDocs/C8051F38x.pdf
footprint SLAB-LQFP-32_N (QFP, 32-Leads, Body 7x7mm, Pitch 0.8mm, IPC Medium Density)
footprint SLAB-LQFP-32_L (QFP, 32-Leads, Body 7x7mm, Pitch 0.8mm, IPC High Density)
footprint SLAB-LQFP-32_M (QFP, 32-Leads, Body 7x7mm, Pitch 0.8mm, IPC Low Density)
pins: 1 P0.1 (io) "Port 0.1. See Section 17 for a complete description.", 2 P0.0 (io) "Port 0.0. See Section 17 for a complete description.", 3 GND (power) "Ground.", 4 VDD (power) "Power Supply Voltage.", 5 ~{RST}/C2CK (io), 6 P3.0/C2D (io), 7 P3.1 (io) "Port 3.1. See Section 17 for a complete description.", 8 P3.2 (io) "Port 3.2. See Section 17 for a complete description.", 9 P3.3 (io) "Port 3.3. See Section 17 for a complete description.", 10 P3.4 (io) "Port 3.4. See Section 17 for a complete description.", 11 P2.7 (io) "Port 2.7. See Section 17 for a complete description.", 12 P2.6 (io) "Port 2.6. See Section 17 for a complete description.", 13 P2.5 (io) "Port 2.5. See Section 17 for a complete description.", 14 P2.4 (io) "Port 2.4. See Section 17 for a complete description.", 15 P2.3 (io) "Port 2.3. See Section 17 for a complete description.", 16 P2.2 (io) "Port 2.2. See Section 17 for a complete description.", 17 P2.1 (io) "Port 2.1. See Section 17 for a complete description.", 18 P2.0 (io) "Port 2.0. See Section 17 for a complete description.", 19 P1.7 (io) "Port 1.7. See Section 17 for a complete description.", 20 P1.6 (io) "Port 1.6. See Section 17 for a complete description.", 21 P1.5 (io) "Port 1.5. See Section 17 for a complete description.", 22 P1.4 (io) "Port 1.4. See Section 17 for a complete description.", 23 P1.3 (io) "Port 1.3. See Section 17 for a complete description.", 24 P1.2 (io) "Port 1.2. See Section 17 for a complete description.", 25 P1.1 (io) "Port 1.1. See Section 17 for a complete description.", 26 P1.0 (io) "Port 1.0. See Section 17 for a complete description.", 27 P0.7 (io) "Port 0.7. See Section 17 for a complete description.", 28 P0.6 (io) "Port 0.6. See Section 17 for a complete description.", 29 P0.5 (io) "Port 0.5. See Section 17 for a complete description.", 30 P0.4 (io) "Port 0.4. See Section 17 for a complete description.", 31 P0.3 (io) "Port 0.3. See Section 17 for a complete description.", 32 P0.2 (io) "Port 0.2. See Section 17 for a complete description."

## C8051F367-GM
designator U?
Mixed Signal ISP Flash MCU Family, 50 MHz, 1.25 kB RAM, 32 kB Flash, -40 to 85 degC, 28-pin QFN; Manufacturer: Silicon Labs; PartNumber: C8051F367-GM; ADC 1: 10-bit, 17-ch., 200 ksps; AEC-Q100: FALSE; Comparators: 2; DAC: 10-bit, 1-ch.; Debug Interface: C2; Dig I/O Pins: 25; Flash: 32 kB; Internal Osc. Accuracy: +/-2%; MCU Core: 8051; MHz: 50; PCA Channels: 6; RAM: 1.25 kB; Temp Sensor: TRUE; Timers (16-bit): 4; Sub-Family: Small Form Factor MCUs; DatasheetVersion: Rev. 1.0; PackageReference: QFN-28; PackageDescription: 28-Pin Quad-Flat No-Leads Package, Body 5 x 5 mm, Pitch 0.5 mm; Supplier 1: Digi-Key; Supplier Part Number 1: 336-1649-ND; Supplier 2: Mouser; Supplier Part Number 2: 634-C8051F367-GM; Mounting Technology: Surface Mount; ComponentLink1Description: Manufacturer URL; ComponentLink1URL: http://www.silabs.com/; ComponentLink2Description: Datasheet; ComponentLink2URL: http://www.silabs.com/Support Documents/TechnicalDocs/C8051F36x.pdf; ComponentLink3Description: Package Specification; ComponentLink3URL: http://www.silabs.com/Support%20Documents/TechnicalDocs/C8051F35x.pdf
footprint SLAB-QFN-28-3125x3125TP_A_N (QFN, 28-Leads, Body 5x5mm, Pitch 0.5mm, Thermal Pad 3.13x3.13mm, IPC Medium Density)
footprint SLAB-QFN-28-3125x3125TP_A_L (QFN, 28-Leads, Body 5x5mm, Pitch 0.5mm, Thermal Pad 3.13x3.13mm, IPC High Density)
footprint SLAB-QFN-28-3125x3125TP_A_M (QFN, 28-Leads, Body 5x5mm, Pitch 0.5mm, Thermal Pad 3.13x3.13mm, IPC Low Density)
pins: 1 P0.1 (io) "Port 0.1. See Section 17 for a complete description.", 2 P0.0 (io) "Port 0.0. See Section 17 for a complete description.", 3 GND (power) "Ground.", 4 VDD (power) "Power Supply Voltage.", 5 ~{RST}/C2CK (io), 6 P3.0/C2D (io), 7 P2.7 (io) "Port 2.7. See Section 17 for a complete description.", 8 P2.6 (io) "Port 2.6. See Section 17 for a complete description.", 9 P2.5 (io) "Port 2.5. See Section 17 for a complete description.", 10 P2.4 (io) "Port 2.4. See Section 17 for a complete description.", 11 P2.3 (io) "Port 2.3. See Section 17 for a complete description.", 12 P2.2 (io) "Port 2.2. See Section 17 for a complete description.", 13 P2.1 (io) "Port 2.1. See Section 17 for a complete description.", 14 P2.0 (io) "Port 2.0. See Section 17 for a complete description.", 15 P1.7 (io) "Port 1.7. See Section 17 for a complete description.", 16 P1.6 (io) "Port 1.6. See Section 17 for a complete description.", 17 P1.5 (io) "Port 1.5. See Section 17 for a complete description.", 18 P1.4 (io) "Port 1.4. See Section 17 for a complete description.", 19 P1.3 (io) "Port 1.3. See Section 17 for a complete description.", 20 P1.2 (io) "Port 1.2. See Section 17 for a complete description.", 21 P1.1 (io) "Port 1.1. See Section 17 for a complete description.", 22 P1.0 (io) "Port 1.0. See Section 17 for a complete description.", 23 P0.7 (io) "Port 0.7. See Section 17 for a complete description.", 24 P0.6 (io) "Port 0.6. See Section 17 for a complete description.", 25 P0.5 (io) "Port 0.5. See Section 17 for a complete description.", 26 P0.4 (io) "Port 0.4. See Section 17 for a complete description.", 27 P0.3 (io) "Port 0.3. See Section 17 for a complete description.", 28 P0.2 (io) "Port 0.2. See Section 17 for a complete description.", 29 GND (power) "Ground."

## C8051F368-GQ
designator U?
Mixed Signal ISP Flash MCU Family, 50 MHz, 1.25 kB RAM, 16 kB Flash, -40 to 85 degC, 32-pin QFP; Manufacturer: Silicon Labs; PartNumber: C8051F368-GQ; ADC 1: 10-bit, 21-ch., 200 ksps; AEC-Q100: FALSE; Comparators: 2; DAC: 10-bit, 1-ch.; Debug Interface: C2; Dig I/O Pins: 29; Flash: 16 kB; Internal Osc. Accuracy: +/-2%; MCU Core: 8051; MHz: 50; PCA Channels: 6; RAM: 1.25 kB; Temp Sensor: TRUE; Timers (16-bit): 4; Sub-Family: Small Form Factor MCUs; DatasheetVersion: Rev. 1.0; PackageReference: LQFP-32; PackageDescription: 32-Pin Low-Profile Quad Flat Pack, Body 7 x 7 mm, Pitch 0.8 mm; Supplier 1: Digi-Key; Supplier Part Number 1: 336-1650-ND; Supplier 2: Mouser; Supplier Part Number 2: 634-C8051F368-GQ; Mounting Technology: Surface Mount; Code_JEDEC: MS-026; Code_IPC: J-STD-020; ComponentLink1Description: Manufacturer URL; ComponentLink1URL: http://www.silabs.com/; ComponentLink2Description: Datasheet; ComponentLink2URL: http://www.silabs.com/Support Documents/TechnicalDocs/C8051F36x.pdf; ComponentLink3Description: Package Specification; ComponentLink3URL: http://www.silabs.com/Support%20Documents/TechnicalDocs/C8051F38x.pdf
footprint SLAB-LQFP-32_N (QFP, 32-Leads, Body 7x7mm, Pitch 0.8mm, IPC Medium Density)
footprint SLAB-LQFP-32_L (QFP, 32-Leads, Body 7x7mm, Pitch 0.8mm, IPC High Density)
footprint SLAB-LQFP-32_M (QFP, 32-Leads, Body 7x7mm, Pitch 0.8mm, IPC Low Density)
pins: 1 P0.1 (io) "Port 0.1. See Section 17 for a complete description.", 2 P0.0 (io) "Port 0.0. See Section 17 for a complete description.", 3 GND (power) "Ground.", 4 VDD (power) "Power Supply Voltage.", 5 ~{RST}/C2CK (io), 6 P3.0/C2D (io), 7 P3.1 (io) "Port 3.1. See Section 17 for a complete description.", 8 P3.2 (io) "Port 3.2. See Section 17 for a complete description.", 9 P3.3 (io) "Port 3.3. See Section 17 for a complete description.", 10 P3.4 (io) "Port 3.4. See Section 17 for a complete description.", 11 P2.7 (io) "Port 2.7. See Section 17 for a complete description.", 12 P2.6 (io) "Port 2.6. See Section 17 for a complete description.", 13 P2.5 (io) "Port 2.5. See Section 17 for a complete description.", 14 P2.4 (io) "Port 2.4. See Section 17 for a complete description.", 15 P2.3 (io) "Port 2.3. See Section 17 for a complete description.", 16 P2.2 (io) "Port 2.2. See Section 17 for a complete description.", 17 P2.1 (io) "Port 2.1. See Section 17 for a complete description.", 18 P2.0 (io) "Port 2.0. See Section 17 for a complete description.", 19 P1.7 (io) "Port 1.7. See Section 17 for a complete description.", 20 P1.6 (io) "Port 1.6. See Section 17 for a complete description.", 21 P1.5 (io) "Port 1.5. See Section 17 for a complete description.", 22 P1.4 (io) "Port 1.4. See Section 17 for a complete description.", 23 P1.3 (io) "Port 1.3. See Section 17 for a complete description.", 24 P1.2 (io) "Port 1.2. See Section 17 for a complete description.", 25 P1.1 (io) "Port 1.1. See Section 17 for a complete description.", 26 P1.0 (io) "Port 1.0. See Section 17 for a complete description.", 27 P0.7 (io) "Port 0.7. See Section 17 for a complete description.", 28 P0.6 (io) "Port 0.6. See Section 17 for a complete description.", 29 P0.5 (io) "Port 0.5. See Section 17 for a complete description.", 30 P0.4 (io) "Port 0.4. See Section 17 for a complete description.", 31 P0.3 (io) "Port 0.3. See Section 17 for a complete description.", 32 P0.2 (io) "Port 0.2. See Section 17 for a complete description."

## C8051F369-GM
designator U?
Mixed Signal ISP Flash MCU Family, 50 MHz, 1.25 kB RAM, 16 kB Flash, -40 to 85 degC, 28-pin QFN; Manufacturer: Silicon Labs; PartNumber: C8051F369-GM; ADC 1: 10-bit, 17-ch., 200 ksps; AEC-Q100: FALSE; Comparators: 2; DAC: 10-bit, 1-ch.; Debug Interface: C2; Dig I/O Pins: 25; Flash: 16 kB; Internal Osc. Accuracy: +/-2%; MCU Core: 8051; MHz: 50; PCA Channels: 6; RAM: 1.25 kB; Temp Sensor: TRUE; Timers (16-bit): 4; Sub-Family: Small Form Factor MCUs; DatasheetVersion: Rev. 1.0; PackageReference: QFN-28; PackageDescription: 28-Pin Quad-Flat No-Leads Package, Body 5 x 5 mm, Pitch 0.5 mm; Supplier 1: Digi-Key; Supplier Part Number 1: 336-1651-ND; Supplier 2: Mouser; Supplier Part Number 2: 634-C8051F369-GM; Mounting Technology: Surface Mount; ComponentLink1Description: Manufacturer URL; ComponentLink1URL: http://www.silabs.com/; ComponentLink2Description: Datasheet; ComponentLink2URL: http://www.silabs.com/Support Documents/TechnicalDocs/C8051F36x.pdf; ComponentLink3Description: Package Specification; ComponentLink3URL: http://www.silabs.com/Support%20Documents/TechnicalDocs/C8051F35x.pdf
footprint SLAB-QFN-28-3125x3125TP_A_N (QFN, 28-Leads, Body 5x5mm, Pitch 0.5mm, Thermal Pad 3.13x3.13mm, IPC Medium Density)
footprint SLAB-QFN-28-3125x3125TP_A_L (QFN, 28-Leads, Body 5x5mm, Pitch 0.5mm, Thermal Pad 3.13x3.13mm, IPC High Density)
footprint SLAB-QFN-28-3125x3125TP_A_M (QFN, 28-Leads, Body 5x5mm, Pitch 0.5mm, Thermal Pad 3.13x3.13mm, IPC Low Density)
pins: 1 P0.1 (io) "Port 0.1. See Section 17 for a complete description.", 2 P0.0 (io) "Port 0.0. See Section 17 for a complete description.", 3 GND (power) "Ground.", 4 VDD (power) "Power Supply Voltage.", 5 ~{RST}/C2CK (io), 6 P3.0/C2D (io), 7 P2.7 (io) "Port 2.7. See Section 17 for a complete description.", 8 P2.6 (io) "Port 2.6. See Section 17 for a complete description.", 9 P2.5 (io) "Port 2.5. See Section 17 for a complete description.", 10 P2.4 (io) "Port 2.4. See Section 17 for a complete description.", 11 P2.3 (io) "Port 2.3. See Section 17 for a complete description.", 12 P2.2 (io) "Port 2.2. See Section 17 for a complete description.", 13 P2.1 (io) "Port 2.1. See Section 17 for a complete description.", 14 P2.0 (io) "Port 2.0. See Section 17 for a complete description.", 15 P1.7 (io) "Port 1.7. See Section 17 for a complete description.", 16 P1.6 (io) "Port 1.6. See Section 17 for a complete description.", 17 P1.5 (io) "Port 1.5. See Section 17 for a complete description.", 18 P1.4 (io) "Port 1.4. See Section 17 for a complete description.", 19 P1.3 (io) "Port 1.3. See Section 17 for a complete description.", 20 P1.2 (io) "Port 1.2. See Section 17 for a complete description.", 21 P1.1 (io) "Port 1.1. See Section 17 for a complete description.", 22 P1.0 (io) "Port 1.0. See Section 17 for a complete description.", 23 P0.7 (io) "Port 0.7. See Section 17 for a complete description.", 24 P0.6 (io) "Port 0.6. See Section 17 for a complete description.", 25 P0.5 (io) "Port 0.5. See Section 17 for a complete description.", 26 P0.4 (io) "Port 0.4. See Section 17 for a complete description.", 27 P0.3 (io) "Port 0.3. See Section 17 for a complete description.", 28 P0.2 (io) "Port 0.2. See Section 17 for a complete description.", 29 GND (power) "Ground."

## C8051F370-A-GM
designator U?
50 MIPS 512B EEPROM Mixed-Signal MCU, 50 MHz, 1 kB RAM, 16 kB Flash, -40 to 85 degC, 24-pin QFN; Manufacturer: Silicon Labs; PartNumber: C8051F370-A-GM; ADC 1: 10-bit, 16-ch., 500 ksps; Comparators: 2; DAC: 10-bit, 2-ch.; Debug Interface: C2; Dig I/O Pins: 21; Flash: 16 kB; Internal Osc. Accuracy: +/-2%; MCU Core: 8051; MHz: 50; PCA Channels: 3; RAM: 1 kB; Temp Sensor: TRUE; Timers (16-bit): 6; Sub-Family: Small Form Factor MCUs; DatasheetVersion: Rev. 1.0; PackageReference: QFN-24; PackageDescription: 24-Pin Quad-Flat No-Leads Package, Body 4 x 4 mm, Pitch 0.5 mm; Supplier 1: Digi-Key; Supplier Part Number 1: 336-2300-5-ND; Supplier 2: Mouser; Supplier Part Number 2: 634-C8051F370-A-GM; Mounting Technology: Surface Mount; Code_JEDEC: MO-220; Code_IPC: J-STD-020; ComponentLink1Description: Manufacturer URL; ComponentLink1URL: http://www.silabs.com/; ComponentLink2Description: Datasheet; ComponentLink2URL: http://www.silabs.com/Support Documents/TechnicalDocs/C8051F39x-37x.pdf; ComponentLink3Description: Package Specification; ComponentLink3URL: http://www.silabs.com/Support%20Documents/TechnicalDocs/C8051F93x-92x.pdf
footprint SLAB-QFN-24-2675x2675TP_N (QFN, 24-Leads, Body 4x4mm, Pitch 0.5mm, Thermal Pad 2.68x2.68mm, IPC Medium Density)
footprint SLAB-QFN-24-2675x2675TP_L (QFN, 24-Leads, Body 4x4mm, Pitch 0.5mm, Thermal Pad 2.68x2.68mm, IPC High Density)
footprint SLAB-QFN-24-2675x2675TP_M (QFN, 24-Leads, Body 4x4mm, Pitch 0.5mm, Thermal Pad 2.68x2.68mm, IPC Low Density)
pins: 1 P0.1/IDA0 (io), 2 P0.0/VREF (io), 3 GND (power) "Ground. This ground connection is required. The center pad may optionally be connected to ground also.", 4 VDD (power) "Power Supply Voltage", 5 ~{RST}/C2CK (io), 6 P2.4/C2D (io), 7 P2.3/EESDA (io), 8 P2.2/EESCL (io), 9 P2.1 (io) "Port 2.1.", 10 P2.0 (io) "Port 2.0. (Also C2D on 20-pin Packaging)", 11 P1.7 (io) "Port 1.7.", 12 P1.6 (io) "Port 1.6.", 13 P1.5 (io) "Port 1.5.", 14 P1.4 (io) "Port 1.4.", 15 P1.3 (io) "Port 1.3.", 16 P1.2/IDA1 (io), 17 P1.1 (io) "Port 1.1.", 18 P1.0 (io) "Port 1.0.", 19 P0.7 (io) "Port 0.7.", 20 P0.6/CNVSTR (io), 21 P0.5 (io) "Port 0.5.", 22 P0.4 (io) "Port 0.4.", 23 P0.3/XTAL2 (io), 24 P0.2/XTAL1 (io), 25 EP (power)